# EAGLE library part AVRSPI-6 (library bytewerk-con)
6-PIN AVR ISP Connector
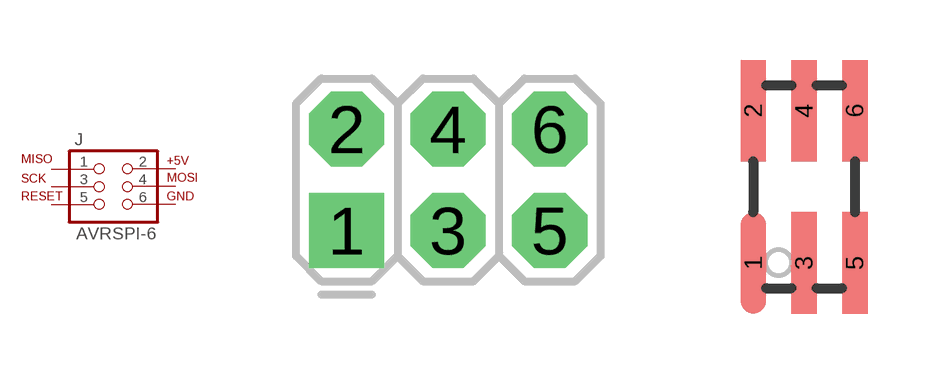
[diagram p0: symbol with the pads of 2X3-NS; footprints 2X3-NS, 2X3-1.27]

Designator prefix J

## AVRSPI-62.56-V  [2X3-NS]
1  MISO  pas
2  +5V  pas
3  SCK  pas
4  MOSI  pas
5  RESET  pas
6  GND  pas

## AVRSPI-61.27  [2X3-1.27]
Pads as for 2X3-NS

## AVRSPI-62.56-H  [2X3-HS]
Pads as for 2X3-NS

## AVRSPI-6TC2030  [TC2030]
Pads as for 2X3-NS

## Footprint 2X3-NS (pad centres in mm)
drill 1.016 pad 1.88 square: 1 -2.54,-1.27
drill 1.016 pad 1.88 octagon: 2 -2.54,1.27; 3 0,-1.27; 4 0,1.27; 5 2.54,-1.27; 6 2.54,1.27

## Footprint 2X3-1.27 (pad centres in mm)
smd 0.635 x 2.54: 1 -1.27,-1.905; 2 -1.27,1.905; 3 0,-1.905; 4 0,1.905; 5 1.27,-1.905; 6 1.27,1.905

## Footprint 2X3-HS (pad centres in mm)
drill 1.016 octagon: 1 -2.54,-6.35; 2 -2.54,-3.81; 3 0,-6.35; 4 0,-3.81; 5 2.54,-6.35; 6 2.54,-3.81

## Footprint TC2030 (pad centres in mm)
smd 0.787 x 0.787: 1 -1.27,-0.635; 2 -1.27,0.635; 3 0,-0.635; 4 0,0.635; 5 1.27,-0.635; 6 1.27,0.635
hole 1 at -2.54,0
hole 1 at 2.54,-1.016
hole 1 at 2.54,1.016